# Altium schematic symbol library MergenElektronik_CircuitProtections_Varistors.SchLib: 1 symbol
Pins are listed as number, name and electrical type; pins without a type are passive.

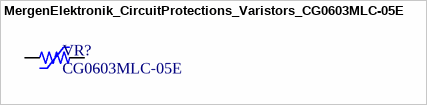
[diagram p0: symbol MergenElektronik_CircuitProtections_Varistors_CG0603MLC-05E]

## MergenElektronik_CircuitProtections_Varistors_CG0603MLC-05E
designator VR?, comment CG0603MLC-05E
Mergen Elektronik - Circuit Protections - Varistors - CG0603MLC-05E; Manufacturer: Bourns Inc.; Model: Varistor Fuse; Voltage Rated: 5V; Digi-Key Number: CG0603MLC-05ECT-ND; Manufacturer Number: CG0603MLC-05E; Mounting Type: Surface Mount; Mouser Number: 652-CG0603MLC-05E; Package: 0603(1608); Temperature: -40°C up to +85°C; Value: CG0603MLC-05E; Farnell Number: 1838966; Supplier 1: Digi-Key; Supplier 2: Mouser; Supplier Part Number 1: CG0603MLC-05EDKR-ND; Supplier Part Number 2: 652-CG0603MLC-05E
footprint MergenElektronik_CircuitProtections_Varistors_0603_L (0603 Large)
footprint MergenElektronik_CircuitProtections_Varistors_0603_L_NS (0603 Large - No Silcscreen)
footprint MergenElektronik_CircuitProtections_Varistors_0603_M (0603 Medium)
footprint MergenElektronik_CircuitProtections_Varistors_0603_M_NS (0603 Medium - No Silkscreen)
footprint MergenElektronik_CircuitProtections_Varistors_0603_S (0603 Small)
footprint MergenElektronik_CircuitProtections_Varistors_0603_S_NS (0603 Small - No Silkscreen)
pins: 1, 2